# EAGLE library part GS8160Z18 (library Digilent)
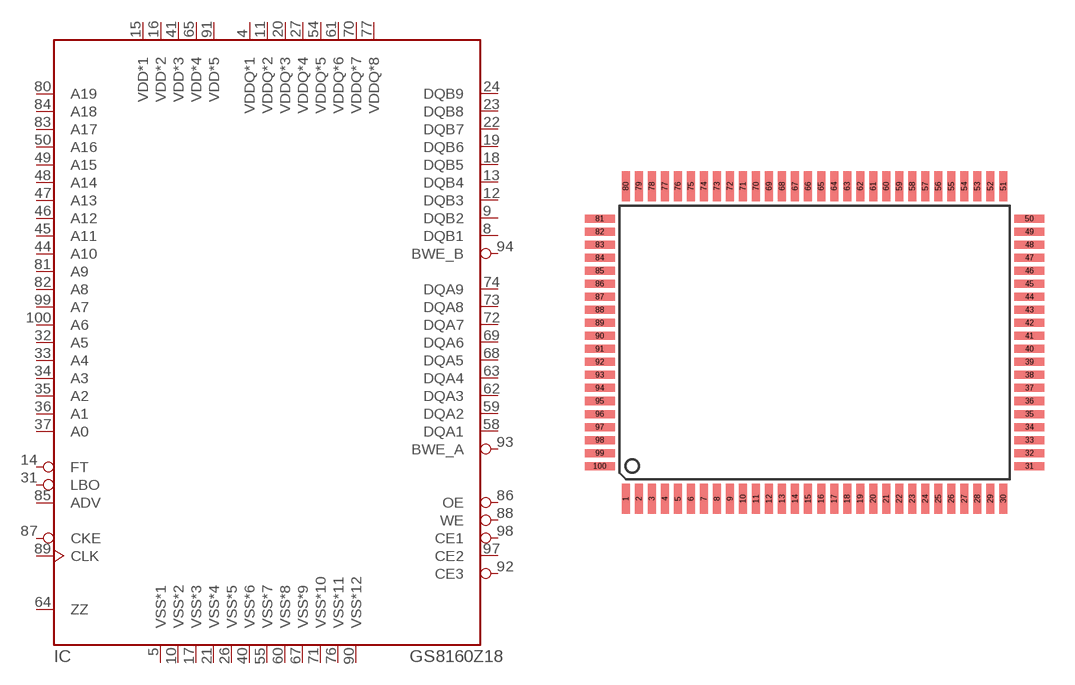
[diagram p60: symbol with the pads of TQFP100R; footprint TQFP100R]

Designator prefix IC

## GS8160Z18T  [TQFP100R]
4  VDDQ*1  pwr
5  VSS*1  pwr
8  DQB1
9  DQB2
10  VSS*2  pwr
11  VDDQ*2  pwr
12  DQB3
13  DQB4
14  FT
15  VDD*1  pwr
16  VDD*2  pwr
17  VSS*3  pwr
18  DQB5
19  DQB6
20  VDDQ*3  pwr
21  VSS*4  pwr
22  DQB7
23  DQB8
24  DQB9
26  VSS*5  pwr
27  VDDQ*4  pwr
31  LBO
32  A5
33  A4
34  A3
35  A2
36  A1
37  A0
40  VSS*6  pwr
41  VDD*3  pwr
44  A10
45  A11
46  A12
47  A13
48  A14
49  A15
50  A16
54  VDDQ*5  pwr
55  VSS*7  pwr
58  DQA1
59  DQA2
60  VSS*8  pwr
61  VDDQ*6  pwr
62  DQA3
63  DQA4
64  ZZ
65  VDD*4  pwr
67  VSS*9  pwr
68  DQA5
69  DQA6
70  VDDQ*7  pwr
71  VSS*10  pwr
72  DQA7
73  DQA8
74  DQA9
76  VSS*11  pwr
77  VDDQ*8  pwr
80  A19
81  A9
82  A8
83  A17
84  A18
85  ADV
86  OE
87  CKE
88  WE
89  CLK
90  VSS*12  pwr
91  VDD*5  pwr
92  CE3
93  BWE_A
94  BWE_B
97  CE2
98  CE1
99  A7
100  A6

## Footprint TQFP100R (pad centres in mm)
TQFP100, 0.65mm pitch, 30x20 rectangular
smd 0.4 x 1.5: 1 -9.425,-7.8; 2 -8.775,-7.8; 3 -8.125,-7.8; 4 -7.475,-7.8; 5 -6.825,-7.8; 6 -6.175,-7.8; 7 -5.525,-7.8; 8 -4.875,-7.8; 9 -4.225,-7.8; 10 -3.575,-7.8; 11 -2.925,-7.8; 12 -2.275,-7.8; 13 -1.625,-7.8; 14 -0.975,-7.8; 15 -0.325,-7.8; 16 0.325,-7.8; 17 0.975,-7.8; 18 1.625,-7.8; 19 2.275,-7.8; 20 2.925,-7.8; 21 3.575,-7.8; 22 4.225,-7.8; 23 4.875,-7.8; 24 5.525,-7.8; 25 6.175,-7.8; 26 6.825,-7.8; 27 7.475,-7.8; 28 8.125,-7.8; 29 8.775,-7.8; 30 9.425,-7.8; 51 9.425,7.8; 52 8.775,7.8; 53 8.125,7.8; 54 7.475,7.8; 55 6.825,7.8; 56 6.175,7.8; 57 5.525,7.8; 58 4.875,7.8; 59 4.225,7.8; 60 3.575,7.8; 61 2.925,7.8; 62 2.275,7.8; 63 1.625,7.8; 64 0.975,7.8; 65 0.325,7.8; 66 -0.325,7.8; 67 -0.975,7.8; 68 -1.625,7.8; 69 -2.275,7.8; 70 -2.925,7.8; 71 -3.575,7.8; 72 -4.225,7.8; 73 -4.875,7.8; 74 -5.525,7.8; 75 -6.175,7.8; 76 -6.825,7.8; 77 -7.475,7.8; 78 -8.125,7.8; 79 -8.775,7.8; 80 -9.425,7.8
smd 1.5 x 0.4: 31 10.725,-6.175; 32 10.725,-5.525; 33 10.725,-4.875; 34 10.725,-4.225; 35 10.725,-3.575; 36 10.725,-2.925; 37 10.725,-2.275; 38 10.725,-1.625; 39 10.725,-0.975; 40 10.725,-0.325; 41 10.725,0.325; 42 10.725,0.975; 43 10.725,1.625; 44 10.725,2.275; 45 10.725,2.925; 46 10.725,3.575; 47 10.725,4.225; 48 10.725,4.875; 49 10.725,5.525; 50 10.725,6.175; 81 -10.725,6.175; 82 -10.725,5.525; 83 -10.725,4.875; 84 -10.725,4.225; 85 -10.725,3.575; 86 -10.725,2.925; 87 -10.725,2.275; 88 -10.725,1.625; 89 -10.725,0.975; 90 -10.725,0.325; 91 -10.725,-0.325; 92 -10.725,-0.975; 93 -10.725,-1.625; 94 -10.725,-2.275; 95 -10.725,-2.925; 96 -10.725,-3.575; 97 -10.725,-4.225; 98 -10.725,-4.875; 99 -10.725,-5.525; 100 -10.725,-6.175